# EAGLE library part VDMR10A1 (library OPTO)
Display Modules - LED Character and Numeric Red 7-Segment 1 Character Common Anode 2V 20mA 0.630" H x 0.386" W x 0.059" D (16.00mm x 9.80mm x 1.50mm) 10-SMD, No Lead
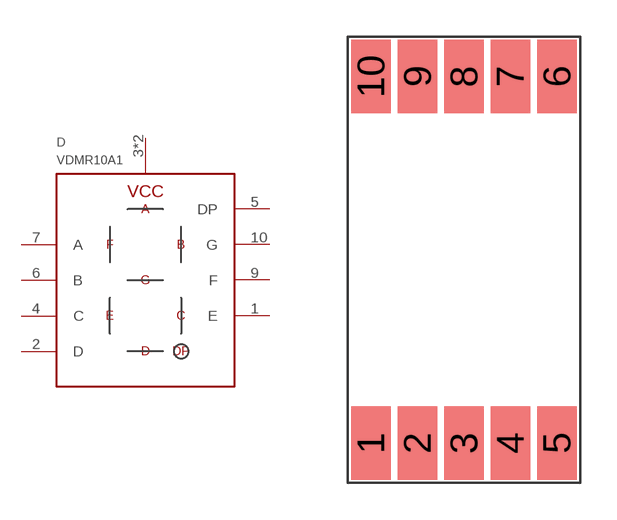
[diagram p6: symbol with the pads of VDMX10A1; footprint VDMX10A1]

Designator prefix D

## VDMR10A1 (DIGIKEY: VDMR10A1CT-ND; HEIGHT: 2.1; PRICE_PER: 2.03; VALUE: VDMR10A1)  [VDMX10A1]
1  E
2  D
3  VCC
4  C
5  DP
6  B
7  A
8  VCC
9  F
10  G

## Footprint VDMX10A1 (pad centres in mm)
smd 1.6 x 3: 1 -3.8,-7.5; 2 -1.9,-7.5; 3 0,-7.5; 4 1.9,-7.5; 5 3.8,-7.5; 6 3.8,7.5; 7 1.9,7.5; 8 0,7.5; 9 -1.9,7.5; 10 -3.8,7.5